# Altium schematic symbol library SCH - POWER - LINEAR VREG - TI TPS72301DBV.SchLib: 1 symbol
Pins are listed as number, name and electrical type; pins without a type are passive.

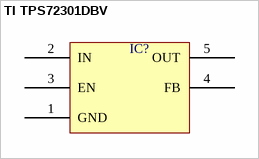
[diagram p0: symbol TI TPS72301DBV]

## TI TPS72301DBV
designator IC?  (value not drawn)
pins: 1 GND, 2 IN, 3 EN, 4 FB, 5 OUT